# EAGLE library part OWLAN211G (library modules)
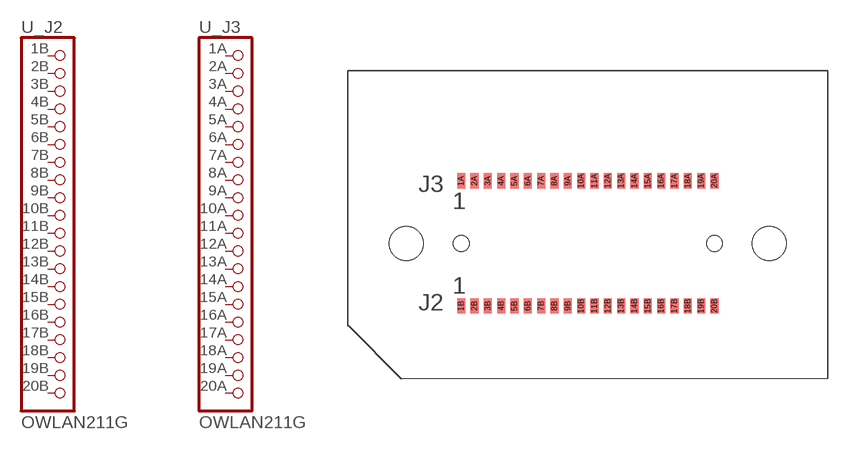
[diagram p5: symbol with the pads of OWLAN211G; footprint OWLAN211G]

Designator prefix -; gates _J2=PINHD20 _J3=PINHD20

## OWLAN211G  [OWLAN211G]
1A  _J3:1  pas
1B  _J2:1  pas
2A  _J3:2  pas
2B  _J2:2  pas
3A  _J3:3  pas
3B  _J2:3  pas
4A  _J3:4  pas
4B  _J2:4  pas
5A  _J3:5  pas
5B  _J2:5  pas
6A  _J3:6  pas
6B  _J2:6  pas
7A  _J3:7  pas
7B  _J2:7  pas
8A  _J3:8  pas
8B  _J2:8  pas
9A  _J3:9  pas
9B  _J2:9  pas
10A  _J3:10  pas
10B  _J2:10  pas
11A  _J3:11  pas
11B  _J2:11  pas
12A  _J3:12  pas
12B  _J2:12  pas
13A  _J3:13  pas
13B  _J2:13  pas
14A  _J3:14  pas
14B  _J2:14  pas
15A  _J3:15  pas
15B  _J2:15  pas
16A  _J3:16  pas
16B  _J2:16  pas
17A  _J3:17  pas
17B  _J2:17  pas
18A  _J3:18  pas
18B  _J2:18  pas
19A  _J3:19  pas
19B  _J2:19  pas
20A  _J3:20  pas
20B  _J2:20  pas

## Footprint OWLAN211G (pad centres in mm)
ConnectBlue OWLAN211g i/x cB-0909 Drawn by: CT
smd 0.61 x 1.13: 1A -9.5,4.695; 1B -9.5,-4.695; 2A -8.5,4.695; 2B -8.5,-4.695; 3A -7.5,4.695; 3B -7.5,-4.695; 4A -6.5,4.695; 4B -6.5,-4.695; 5A -5.5,4.695; 5B -5.5,-4.695; 6A -4.5,4.695; 6B -4.5,-4.695; 7A -3.5,4.695; 7B -3.5,-4.695; 8A -2.5,4.695; 8B -2.5,-4.695; 9A -1.5,4.695; 9B -1.5,-4.695; 10A -0.5,4.695; 10B -0.5,-4.695; 11A 0.5,4.695; 11B 0.5,-4.695; 12A 1.5,4.695; 12B 1.5,-4.695; 13A 2.5,4.695; 13B 2.5,-4.695; 14A 3.5,4.695; 14B 3.5,-4.695; 15A 4.5,4.695; 15B 4.5,-4.695; 16A 5.5,4.695; 16B 5.5,-4.695; 17A 6.5,4.695; 17B 6.5,-4.695; 18A 7.5,4.695; 18B 7.5,-4.695; 19A 8.5,4.695; 19B 8.5,-4.695; 20A 9.5,4.695; 20B 9.5,-4.695
hole 2.54 at -13.62,0
hole 2.54 at 13.62,0
hole 1.19 at -9.5,0
hole 1.19 at 9.5,0